# Altium schematic symbol library test.SchLib: 2 symbols
Pins are listed as number, name and electrical type; pins without a type are passive.

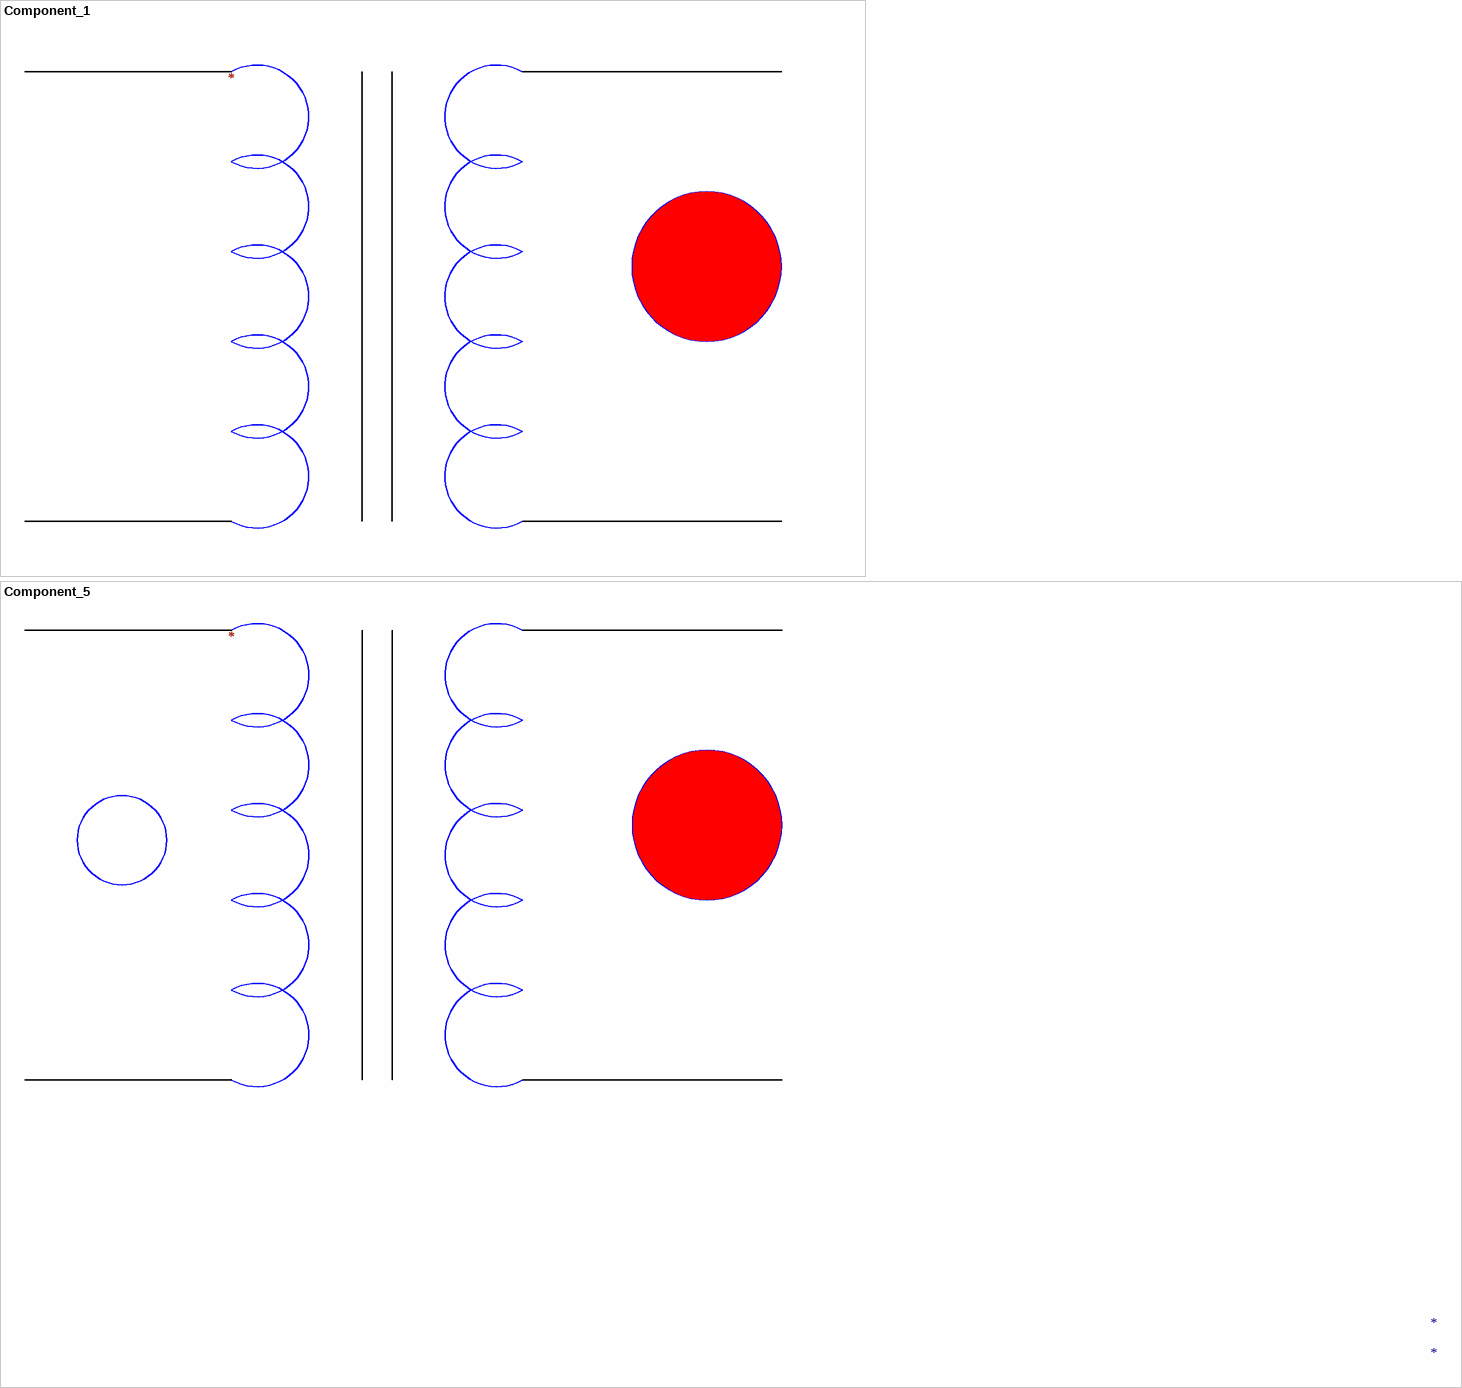
[diagram p0: symbols Component_1 to Component_5]

## Component_1
designator *

## Component_5
designator *